# EAGLE library part AUDIOSHIELD (library halcyonmod_Teensy)
Teensy 3 Audioshield by PJRC.COM
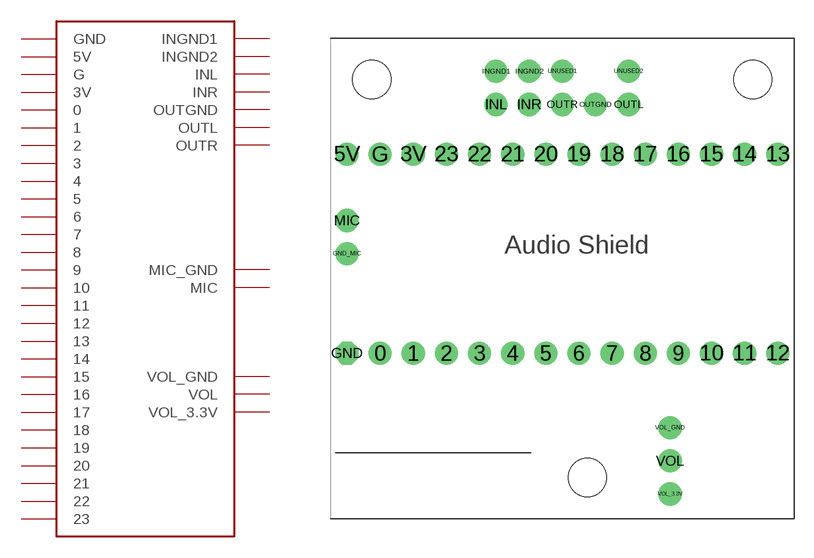
[diagram p9: symbol with the pads of AUDIOSHIELD; footprint AUDIOSHIELD]

Designator prefix -

## AUDIOSHIELD  [AUDIOSHIELD]
0  0
1  1
2  2
3  3
3V  3V
4  4
5  5
5V  5V
6  6
7  7
8  8
9  9
10  10
11  11
12  12
13  13
14  14
15  15
16  16
17  17
18  18
19  19
20  20
21  21
22  22
23  23
G  G
GND  GND
GND_MIC  MIC_GND
INGND1  INGND1
INGND2  INGND2
INL  INL  in
INR  INR  in
MIC  MIC  in
OUTGND  OUTGND
OUTL  OUTL  out
OUTR  OUTR  out
VOL  VOL  in
VOL_3.3V  VOL_3.3V
VOL_GND  VOL_GND

## Footprint AUDIOSHIELD (pad centres in mm)
drill 1 pad 1.778: 0 -13.97,-5.08; 1 -11.43,-5.08; 2 -8.89,-5.08; 3 -6.35,-5.08; 3V -11.43,10.16; 4 -3.81,-5.08; 5 -1.27,-5.08; 5V -16.51,10.16; 6 1.27,-5.08; 7 3.81,-5.08; 8 6.35,-5.08; 9 8.89,-5.08; 10 11.43,-5.08; 11 13.97,-5.08; 12 16.51,-5.08; 13 16.51,10.16; 14 13.97,10.16; 15 11.43,10.16; 16 8.89,10.16; 17 6.35,10.16; 18 3.81,10.16; 19 1.27,10.16; 20 -1.27,10.16; 21 -3.81,10.16; 22 -6.35,10.16; 23 -8.89,10.16; G -13.97,10.16; GND_MIC -16.51,2.54; INGND1 -5.08,16.51; INGND2 -2.54,16.51; INL -5.08,13.97; INR -2.54,13.97; MIC -16.51,5.08; OUTGND 2.54,13.97; OUTL 5.08,13.97; OUTR 0,13.97; UNUSED1 0,16.51; UNUSED2 5.08,16.51; VOL 8.255,-13.335; VOL_3.3V 8.255,-15.875; VOL_GND 8.255,-10.795
drill 1 pad 1.778 octagon: GND -16.51,-5.08
hole 2.921 at 1.905,-14.605
hole 2.921 at -14.605,15.875
hole 2.921 at 14.605,15.875